# Altium footprint library LEDLightRing_PCB.PcbLib: 12 footprints
Each footprint in its own frame and in the unit in brackets; x right, y up, seen from the top. Pads: shape width x height; smd on the part's side, far side on the other; paste and mask are expansions set on the pad; w line width, h text height; cw(c..) or ccw(c..) is an arc to the next point about the centre after c.
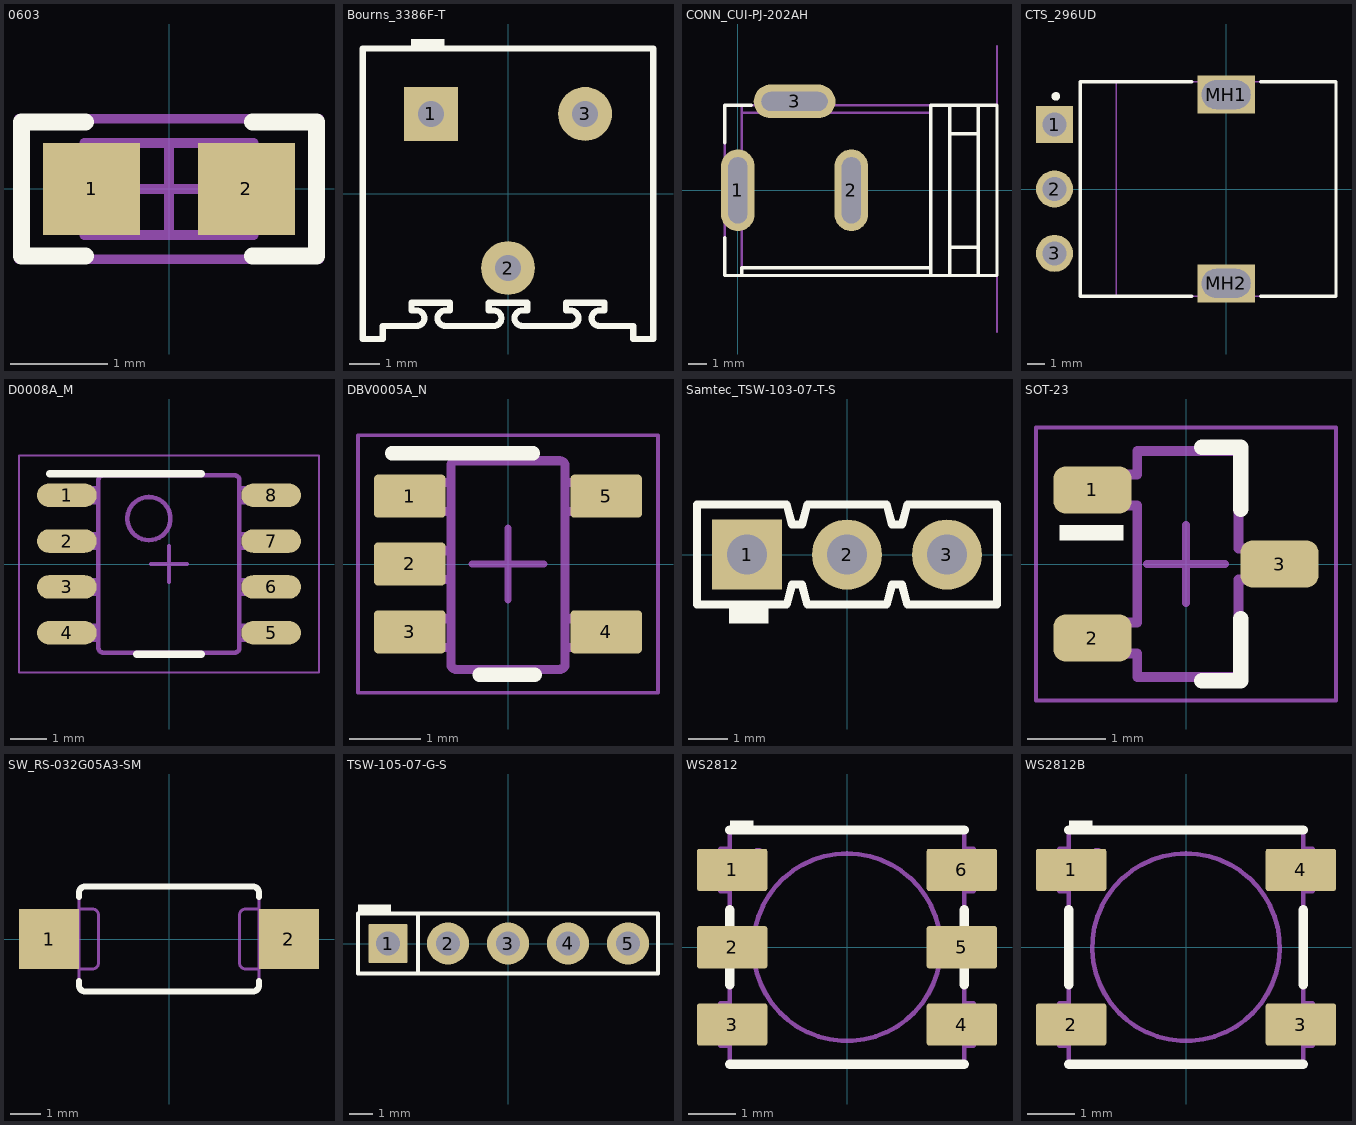
[diagram p0: the footprints below, top view; thin cyan lines are the x and y axes]

## 0603 [mm]
pads (2):
  rect 1x0.95 smd: 1(-0.8,0) 2(0.8,0)
Top Overlay:
  lines w0.178: -0.864,-0.691 -1.524,-0.691 -1.524,0.693 -0.864,0.693 ; 0.864,-0.691 1.524,-0.691 1.524,0.693 0.864,0.693
Mechanical 5:
  lines w0.1: -1.55,-0.725 -1.55,0.725 1.55,0.725 1.55,-0.725 -1.55,-0.725
  text ".Designator" at -1.397,-0.381 h0.76
Mechanical 13:
  lines w0.1: -0.55,-0.475 -0.55,0.475 ; 0.55,-0.475 0.55,0.475 ; -0.875,-0.475 0.875,-0.475 0.875,0.475 -0.875,0.475 -0.875,-0.475
Mechanical 15:
  lines w0.1: -0.475,0 0.475,0 ; 0,-0.475 0,0.475 ; -1.55,-0.725 1.55,-0.725 1.55,0.725 -1.55,0.725 -1.55,-0.725
3D body: height 1, standoff 0, extent -0.874,-0.474 -0.551,0.474
3D body: height 1, standoff 0, extent -0.549,-0.474 0.549,0.474
3D body: height 1, standoff 0, extent 0.551,-0.474 0.874,0.474

## Bourns_3386F-T [mil]
pads (3):
  rect 70x70 hole 33.46: 1(-100,103.63)
  round 70 hole 33.46: 2(0,-96.37) 3(100,103.63)
Top Overlay:
  rectangle: -125.98,188.5 -82.68,200.79
  lines w7.87: -188.5,-188.5 -188.5,188.5 188.5,188.5 188.5,-188.5 162.5,-188.5 162.5,-171.5 118.5,-171.5 cw(c118.5,-161.5) 118.5,-151.5 125,-151.5 125,-141.5 75,-141.5 75,-151.5 81.5,-151.5 cw(c81.5,-161.5) 81.5,-171.5 18.5,-171.5 cw(c18.5,-161.5) 18.5,-151.5 25,-151.5 25,-141.5 -25,-141.5 -25,-151.5 -18.5,-151.5 cw(c-18.5,-161.5) -18.5,-171.5 -81.5,-171.5 cw(c-81.5,-161.5) -81.5,-151.5 -75,-151.5 -75,-141.5 -125,-141.5 -125,-151.5 -118.5,-151.5 cw(c-118.5,-161.5) -118.5,-171.5 -162.5,-171.5 -162.5,-188.5 -188.5,-188.5
Mechanical 5:
  lines w3.94: -188.5,-188.5 -162.5,-188.5 -162.5,-171.5 -118.5,-171.5 ccw(c-118.5,-161.5) -118.5,-151.5 -125,-151.5 -125,-141.5 -75,-141.5 -75,-151.5 -81.5,-151.5 ccw(c-81.5,-161.5) -81.5,-171.5 -18.5,-171.5 ccw(c-18.5,-161.5) -18.5,-151.5 -25,-151.5 -25,-141.5 25,-141.5 25,-151.5 18.5,-151.5 ccw(c18.5,-161.5) 18.5,-171.5 81.5,-171.5 ccw(c81.5,-161.5) 81.5,-151.5 75,-151.5 75,-141.5 125,-141.5 125,-151.5 118.5,-151.5 ccw(c118.5,-161.5) 118.5,-171.5 162.5,-171.5 162.5,-188.5 188.5,-188.5 188.5,188.5 -188.5,188.5 -188.5,-188.5
  text ".Designator" at -60,-20 h40
3D body: height 415, standoff -235, extent -188.5,-188.49 188.5,188.51

## CONN_CUI-PJ-202AH [mm]
pads (3):
  oval 1.778x4.318 hole 1 slot 3.5 at 90 deg: 1(0,0) 2(6,0)
  oval 4.318x1.778 hole 1 slot 3.5 at 180 deg: 3(3,4.7)
Top Overlay:
  lines w0.178: -0.7,-2.5 -0.7,-4.5 0.2,-4.5 ; -0.7,2.5 -0.7,4.5 0.2,4.5 0.7,4.5 ; 10.2,-4.1 0.2,-4.1 0.2,-4.5 ; 11.2,-3 12.7,-3 ; 11.2,3 12.7,3 ; 0.2,-4.5 10.2,-4.5 ; 10.2,-4.5 10.2,4.5 11.2,4.5 ; 10.2,-4.5 11.2,-4.5 ; 11.2,-4.5 12.7,-4.5 ; 11.2,-4.5 11.2,4.5 ; 11.2,4.5 12.7,4.5 ; 12.7,-4.5 13.7,-4.5 13.7,4.5 12.7,4.5 ; 12.7,-4.5 12.7,4.5
Mechanical 1:
  lines w0.127: 13.7,-7.48 13.7,7.62
  text "board edge" at 15.2,-7.8 h0.89
Mechanical 5:
  lines w0.127: 0.2,-1.5 -0.2,-1.5 ; 0.2,1.5 -0.2,1.5 ; 1.75,4.5 1.75,4.9 4.25,4.9 4.25,4.5 ; 10.2,-4.1 0.2,-4.1 ; 10.2,4.1 0.2,4.1 ; 11.2,-3 12.7,-3 ; 11.2,3 12.7,3 ; -0.2,-1.5 -0.7,-1.5 -0.7,-4.5 0.2,-4.5 ; -0.2,-1.5 -0.2,1.5 ; -0.2,1.5 -0.7,1.5 -0.7,4.5 0.2,4.5 ; 0.2,-4.5 0.2,-4.1 ; 0.2,-4.5 10.2,-4.5 ; 0.2,-4.1 0.2,4.1 ; 0.2,4.1 0.2,4.5 ; 0.2,4.5 10.2,4.5 ; 10.2,-4.5 11.2,-4.5 ; 10.2,-4.5 10.2,4.5 ; 10.2,4.5 11.2,4.5 ; 11.2,-4.5 11.2,4.5 ; 11.2,-4.5 12.7,-4.5 ; 11.2,4.5 12.7,4.5 ; 12.7,-4.5 12.7,4.5 ; 12.7,-4.5 13.7,-4.5 13.7,4.5 12.7,4.5
  text ".Designator" at 1.4,-0.4 h1.02
3D body: height 11.02, standoff -3.48, extent -0.7,-4.5 13.7,4.9

## CTS_296UD [mm]
pads (5):
  rect 2.159x2.159 hole 1.4: 1(-10,3.75)
  round 2.159 hole 1.4: 2(-10,0) 3(-10,-3.75)
  rect 3.35x2.2 hole 1.68 slot 2.85 at 0 deg: MH1(0,5.5) MH2(0,-5.5)
Top Overlay:
  circle w0.25: c-9.925,5.4 r0.125
  lines w0.2: -2,-6.25 -8.5,-6.25 -8.5,6.25 -2,6.25 ; 2,-6.25 6.4,-6.25 6.4,6.25 2,6.25
Mechanical 5:
  lines w0.1: -6.4,-6.25 -8.5,-6.25 -8.5,6.25 -6.4,6.25 ; -6.4,-6.25 6.4,-6.25 6.4,6.25 -6.4,6.25 ; -6.4,-6.25 -6.4,6.25
  text ".Designator" at -1.524,-0.508 h1.02
3D body: height 1, standoff 0, extent -1.75,-5.7 1.75,-5.3
3D body: height 1, standoff 0, extent -1.75,5.3 1.75,5.7
3D body: height 0, standoff -2.5, extent -10.198,-0.199 -9.8,0.2
3D body: height 0, standoff -2.5, extent -10.198,-3.949 -9.8,-3.55
3D body: height 0, standoff -2.5, extent -10.198,3.551 -9.8,3.95
3D body: height 4.1, standoff 0, extent -10.2,3 -9.8,4.5
3D body: height 4.1, standoff 3.7, extent -10.2,3 -6.4,4.5
3D body: height 4.1, standoff 3.7, extent -10.2,-0.75 -6.4,0.75
3D body: height 4.1, standoff 0, extent -10.2,-0.75 -9.8,0.75
3D body: height 4.1, standoff 3.7, extent -10.2,-4.5 -6.4,-3
3D body: height 4.1, standoff 0, extent -10.2,-4.5 -9.8,-3
3D body: height 8.7, standoff 3.7, extent -6.4,-6.25 6.4,6.25
3D body: height 3.7, standoff 3, extent -8.5,-6.25 6.4,6.25
3D body: height 3.7, standoff -2.5, extent -1.25,5.3 1.25,5.7
3D body: height 3.7, standoff -2.5, extent -1.25,-5.7 1.25,-5.3

## D0008A_M [mm]
pads (8):
  oval 1.65x0.65 smd: 1(-2.825,1.905) 2(-2.825,0.635) 3(-2.825,-0.635) 4(-2.825,-1.905) 5(2.825,-1.905) 6(2.825,-0.635) 7(2.825,0.635) 8(2.825,1.905)
Top Overlay:
  lines w0.2: -3.3,2.5 0.9,2.5 ; -0.9,-2.5 0.9,-2.5
Mechanical 5:
  lines w0.127: -2.375,-2.095 -1.995,-2.095 -1.952,-2.095 -1.952,-1.715 -1.995,-1.715 -2.375,-1.715 ; -2.375,-2.095 -2.589,-2.095 -3.002,-2.095 -3.002,-1.715 -2.589,-1.715 -2.375,-1.715 ; -2.375,-2.095 -2.375,-1.715 ; -2.375,-0.825 -1.995,-0.825 -1.952,-0.825 -1.952,-0.445 -1.995,-0.445 -2.375,-0.445 ; -2.375,-0.825 -2.589,-0.825 -3.002,-0.825 -3.002,-0.445 -2.589,-0.445 -2.375,-0.445 ; -2.375,-0.825 -2.375,-0.445 ; -2.375,0.445 -1.995,0.445 -1.952,0.445 -1.952,0.825 -1.995,0.825 -2.375,0.825 ; -2.375,0.445 -2.589,0.445 -3.002,0.445 -3.002,0.825 -2.589,0.825 -2.375,0.825 ; -2.375,0.445 -2.375,0.825 ; -2.375,1.715 -1.995,1.715 -1.952,1.715 -1.952,2.095 -1.995,2.095 -2.375,2.095 ; -2.375,1.715 -2.589,1.715 -3.002,1.715 -3.002,2.095 -2.589,2.095 -2.375,2.095 ; -2.375,1.715 -2.375,2.095 ; -0.332,-2.45 -1.825,-2.45 -1.826,-2.45 cw(c-1.825,-2.323) -1.952,-2.324 -1.952,-2.323 -1.952,2.323 -1.952,2.324 cw(c-1.825,2.323) -1.826,2.45 -1.825,2.45 -0.332,2.45 ; -0.332,-2.45 -0.182,-2.45 ; -0.332,-2.45 -0.182,-2.45 ; -0.332,2.45 -0.182,2.45 ; -0.332,2.45 -0.182,2.45 ; -0.182,-2.45 0.178,-2.45 ; -0.182,2.45 0.178,2.45 ; 0.178,-2.45 0.328,-2.45 ; 0.178,-2.45 0.328,-2.45 ; 0.178,2.45 0.328,2.45 ; 0.178,2.45 0.328,2.45 ; 0.328,-2.45 1.821,-2.45 1.822,-2.45 ccw(c1.821,-2.323) 1.948,-2.324 1.948,-2.323 1.948,2.323 1.948,2.324 ccw(c1.821,2.323) 1.822,2.45 1.821,2.45 0.328,2.45 ; 2.371,-2.095 2.585,-2.095 2.998,-2.095 2.998,-1.715 2.585,-1.715 2.371,-1.715 ; 2.371,-2.095 1.991,-2.095 1.948,-2.095 1.948,-1.715 1.991,-1.715 2.371,-1.715 ; 2.371,-2.095 2.371,-1.715 ; 2.371,-0.825 2.585,-0.825 2.998,-0.825 2.998,-0.445 2.585,-0.445 2.371,-0.445 ; 2.371,-0.825 1.991,-0.825 1.948,-0.825 1.948,-0.445 1.991,-0.445 2.371,-0.445 ; 2.371,-0.825 2.371,-0.445 ; 2.371,0.445 2.585,0.445 2.998,0.445 2.998,0.825 2.585,0.825 2.371,0.825 ; 2.371,0.445 1.991,0.445 1.948,0.445 1.948,0.825 1.991,0.825 2.371,0.825 ; 2.371,0.445 2.371,0.825 ; 2.371,1.715 2.585,1.715 2.998,1.715 2.998,2.095 2.585,2.095 2.371,2.095 ; 2.371,1.715 1.991,1.715 1.948,1.715 1.948,2.095 1.991,2.095 2.371,2.095 ; 2.371,1.715 2.371,2.095 ; -0.555,0.659 cw(c-0.555,1.256) -0.555,1.853 cw(c-0.555,1.256) -0.555,0.659
  text ".Designator" at -1.625,-0.625 h0.89
Mechanical 15:
  lines w0.05: -4.15,-3 4.15,-3 4.15,3 -4.15,3 -4.15,-3
  lines w0.1: -0.5,0 0.5,0 ; 0,-0.5 0,0.5
3D body: height 1.63, standoff 0, extent -3,-2.45 3,2.45

## DBV0005A_N [mm]
pads (5):
  rrect17% 1x0.6 smd: 1(-1.375,0.95) 2(-1.375,0) 3(-1.375,-0.95) 4(1.375,-0.95) 5(1.375,0.95)
Top Overlay:
  lines w0.2: -1.625,1.55 0.35,1.55 ; -0.4,-1.55 0.375,-1.55
Mechanical 5:
  lines w0.127: -0.801,1.371 cw(c-0.725,1.37) -0.725,1.446 ; -0.801,1.37 -0.801,1.371 ; -0.801,1.37 -0.801,-1.399 -0.801,-1.4 ccw(c-0.725,-1.399) -0.725,-1.475 ; -0.725,-1.475 0.723,-1.475 0.724,-1.475 ccw(c0.723,-1.399) 0.799,-1.4 0.799,-1.399 0.799,1.37 ; -0.725,-1.475 -0.725,-1.475 ; -0.725,1.446 -0.725,1.446 ; -0.725,1.446 0.723,1.446 0.724,1.446 cw(c0.723,1.37) 0.799,1.371 ; 0.799,1.37 0.799,1.371 ; -1.423,-1.167 -1.423,-0.767 -1.199,-0.767 -1.105,-0.767 -1.088,-0.767 -0.835,-0.767 -0.801,-0.767 -0.801,-1.167 -0.835,-1.167 -1.088,-1.167 -1.105,-1.167 -1.199,-1.167 -1.423,-1.167 ; -1.423,-0.215 -1.423,0.186 -1.199,0.186 -1.105,0.186 -1.088,0.186 -0.835,0.186 -0.801,0.186 -0.801,-0.215 -0.835,-0.215 -1.088,-0.215 -1.105,-0.215 -1.199,-0.215 -1.423,-0.215 ; -1.423,0.738 -1.423,1.138 -1.199,1.138 -1.105,1.138 -1.088,1.138 -0.835,1.138 -0.801,1.138 -0.801,0.738 -0.835,0.738 -1.088,0.738 -1.105,0.738 -1.199,0.738 -1.423,0.738 ; 0.799,-1.167 0.834,-1.167 1.087,-1.167 1.103,-1.167 1.198,-1.167 1.422,-1.167 1.422,-0.767 1.198,-0.767 1.103,-0.767 1.087,-0.767 0.834,-0.767 0.799,-0.767 0.799,-1.167 ; 0.799,0.738 0.834,0.738 1.087,0.738 1.103,0.738 1.198,0.738 1.422,0.738 1.422,1.138 1.198,1.138 1.103,1.138 1.087,1.138 0.834,1.138 0.799,1.138 0.799,0.738
  text ".Designator" at -0.25,0.95 h0.51
Mechanical 15:
  lines w0.05: -2.1,-1.8 -2.1,1.8 2.1,1.8 2.1,-1.8 -2.1,-1.8
  lines w0.1: -0.5,0 0.5,0 ; 0,-0.5 0,0.5
3D body: height 1.09, standoff 0, extent -1.422,-1.461 1.423,1.46

## Samtec_TSW-103-07-T-S [mil]
pads (3):
  rect 70x70 hole 40.16: 1(-100,0)
  round 70 hole 40.16: 2(0,0) 3(100,0)
Top Overlay:
  rectangle: -118.11,-68.9 -78.74,-50
  lines w7.87: -150,-50 -150,50 -60.4,50 -55,30 -50,30 -45,30 -39.6,50 39.6,50 45,30 50,30 55,30 60.4,50 150,50 150,-50 60.4,-50 55,-30 50,-30 45,-30 39.6,-50 -39.6,-50 -45,-30 -50,-30 -55,-30 -60.4,-50 -150,-50
Mechanical 5:
  lines w3.94: -150,-50 -60.4,-50 -55,-30 -50,-30 -45,-30 -39.6,-50 39.6,-50 45,-30 50,-30 55,-30 60.4,-50 150,-50 150,50 60.4,50 55,30 50,30 45,30 39.6,50 -39.6,50 -45,30 -50,30 -55,30 -60.4,50 -150,50 -150,-50
  text ".Designator" at -68.9,-15.75 h40
3D body: height 330.48, standoff -99.52, extent -150,-50 150,50

## SOT-23 [mm]
pads (3):
  rrect50% 1x0.6 smd: 1(-1.2,0.95) 2(-1.2,-0.95) 3(1.2,0)
Top Overlay:
  rectangle: -1.625,0.3 -0.8,0.5
  lines w0.2: 0.2,-1.5 0.7,-1.5 0.7,-0.7 ; 0.2,1.5 0.7,1.5 0.7,0.7
Mechanical 5:
  lines w0.127: -1.16,-1.15 -0.625,-1.15 -0.625,-1.45 0.675,-1.45 0.675,-0.2 1.21,-0.2 1.21,0.2 0.675,0.2 0.675,1.45 -0.625,1.45 -0.625,1.15 -1.16,1.15 -1.16,0.75 -0.625,0.75 -0.625,-0.75 -1.16,-0.75 -1.16,-1.15
  text ".Designator" at -0.175,1.225 h0.64
Mechanical 15:
  lines w0.05: -1.925,-1.75 -1.925,1.75 1.925,1.75 1.925,-1.75 -1.925,-1.75
  lines w0.1: -0.5,0 0.5,0 ; 0,-0.5 0,0.5
3D body: height 1, standoff 0, extent -1.16,-1.45 1.21,1.45

## SW_RS-032G05A3-SM [mm]
pads (2):
  rect 2x2 smd: 1(-4,0) 2(4,0)
Top Overlay:
  lines w0.2: -3,-1.4 -3,-1.55 ccw(c-2.8,-1.55) -2.8,-1.75 2.8,-1.75 ccw(c2.8,-1.55) 3,-1.55 3,-1.4 ; -3,1.4 -3,1.55 cw(c-2.8,1.55) -2.8,1.75 2.8,1.75 cw(c2.8,1.55) 3,1.55 3,1.4
Mechanical 5:
  lines w0.1: -3,-1 -2.55,-1 ccw(c-2.551,-0.799) -2.35,-0.798 -2.35,0.801 ccw(c-2.55,0.8) -2.55,1 -3,1 ; -3,-0.5 -3.3,-0.5 -3.5,-0.5 -3.7,-0.5 -4,-0.5 -4,0.5 -3.7,0.5 -3.5,0.5 -3.3,0.5 -3,0.5 ; 3,-1 2.55,-1 cw(c2.551,-0.799) 2.35,-0.798 2.35,0.801 cw(c2.55,0.8) 2.55,1 3,1 ; 3,-0.5 3.3,-0.5 3.5,-0.5 3.7,-0.5 4,-0.5 4,0.5 3.7,0.5 3.5,0.5 3.3,0.5 3,0.5 ; -3,-1.55 ccw(c-2.8,-1.55) -2.8,-1.75 2.8,-1.75 ccw(c2.8,-1.55) 3,-1.55 3,1.55 ccw(c2.8,1.55) 2.8,1.75 -2.8,1.75 ccw(c-2.8,1.55) -3,1.55 -3,-1.55
  text ".Designator" at -2.05,-0.3 h0.8
3D body: height 4.3, standoff 0, extent -4,-1.75 4,1.75

## TSW-105-07-G-S [mil]
pads (5):
  rrect6% 64.96x64.96 hole 40: 1(-200,0)
  round 70 hole 40: 2(-100,0) 3(0,0) 4(100,0) 5(200,0)
Top Overlay:
  rectangle: -250,50 -195,65
  lines w7: -150,-50 -150,50 ; -250,-50 250,-50 250,50 -250,50 -250,-50
Mechanical 5:
  rectangle: -220,-20 -180,20
  lines w5: -250,-50 -250,50 250,50 250,-50 -250,-50
  text ".Designator" at -60,-20 h40
3D body: height 330, standoff -100, extent -250,-50 250,50

## WS2812 [mm]
pads (6):
  rrect11% 1.5x0.9 smd: 1(-2.45,1.65) 2(-2.45,-0.001) 3(-2.45,-1.65) 4(2.45,-1.65) 5(2.45,-0.001) 6(2.45,1.65)
Top Overlay:
  region: -2,2.5 -2,2.7 -2.5,2.7 -2.5,2.5
  lines w0.2: -2.5,-2.5 2.5,-2.5 ; -2.5,-0.8 -2.5,0.8 ; -2.5,2.5 2.5,2.5 ; 2.5,-0.8 2.5,0.8
Mechanical 5:
  lines w0.1: -2.5,-2.1 -2.7,-2.1 -2.7,-1.2 -2.5,-1.2 ; -2.5,1.2 -2.7,1.2 -2.7,2.1 -2.5,2.1 ; 2.5,-2.1 2.7,-2.1 2.7,-1.2 2.5,-1.2 ; 2.5,1.2 2.7,1.2 2.7,2.1 2.5,2.1 ; -2.5,-2.5 -2.5,2.5 2.5,2.5 2.5,-2.5 -2.5,-2.5 ; -1.895,2.068 ccw(c-1.895,1.961) -1.895,2.068 ; 0,2 ccw(c0,0) 0,2
  text ".Designator" at -2.286,-3.429 h1.2
3D body: height 1.67, standoff 0.02, extent -2.7,-2.5 2.7,2.5

## WS2812B [mm]
pads (4):
  rrect11% 1.5x0.9 smd: 1(-2.45,1.65) 2(-2.45,-1.65) 3(2.45,-1.65) 4(2.45,1.65)
Top Overlay:
  region: -2,2.5 -2,2.7 -2.5,2.7 -2.5,2.5
  lines w0.2: -2.5,-2.5 2.5,-2.5 ; -2.5,-0.8 -2.5,0.8 ; -2.5,2.5 2.5,2.5 ; 2.5,-0.8 2.5,0.8
Mechanical 5:
  lines w0.1: -2.5,-2.1 -2.7,-2.1 -2.7,-1.2 -2.5,-1.2 ; -2.5,1.2 -2.7,1.2 -2.7,2.1 -2.5,2.1 ; 2.5,-2.1 2.7,-2.1 2.7,-1.2 2.5,-1.2 ; 2.5,1.2 2.7,1.2 2.7,2.1 2.5,2.1 ; -2.5,-2.5 2.5,-2.5 2.5,2.5 -2.5,2.5 -2.5,-2.5 ; -1.895,2.068 ccw(c-1.895,1.961) -1.895,2.068 ; 0,2 ccw(c0,0) 0,2
  text ".Designator" at -1,-0.3 h1.2
3D body: height 1.67, standoff 0.02, extent -2.7,-2.5 2.7,2.5